# EAGLE library part DS3231-BREAKOUT (library DS3231-BREAKOUT)
DS3231 RTC (Real-Time Clock) Module Breakout
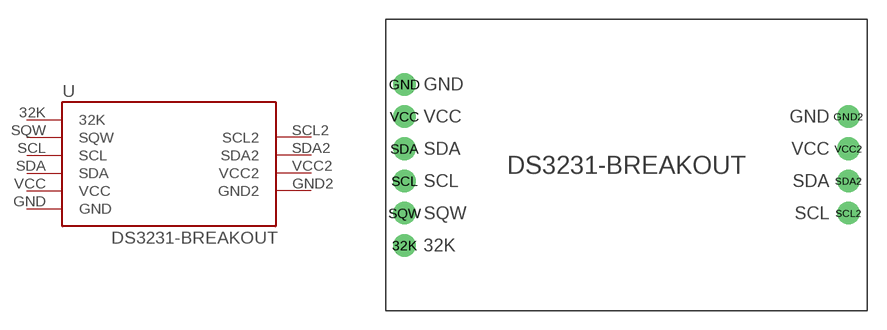
[diagram p0: symbol with the pads of DS3231-BREAKOUT; footprint DS3231-BREAKOUT]

Designator prefix U

## DS3231-BREAKOUT  [DS3231-BREAKOUT]
32K  32K
GND  GND
GND2  GND2
SCL  SCL
SCL2  SCL2
SDA  SDA
SDA2  SDA2
SQW  SQW
VCC  VCC
VCC2  VCC2

## Footprint DS3231-BREAKOUT (pad centres in mm)
drill 1 pad 1.778: 32K -17.5,-6.35; GND -17.5,6.35; GND2 17.5,3.81; SCL -17.5,-1.27; SCL2 17.5,-3.81; SDA -17.5,1.27; SDA2 17.5,-1.27; SQW -17.5,-3.81; VCC -17.5,3.81; VCC2 17.5,1.27